# Altium footprint library Molex43045-0402.PcbLib: 1 footprints
Each footprint in its own frame and in the unit in brackets; x right, y up, seen from the top. Pads: shape width x height; smd on the part's side, far side on the other; paste and mask are expansions set on the pad; w line width, h text height; cw(c..) or ccw(c..) is an arc to the next point about the centre after c.
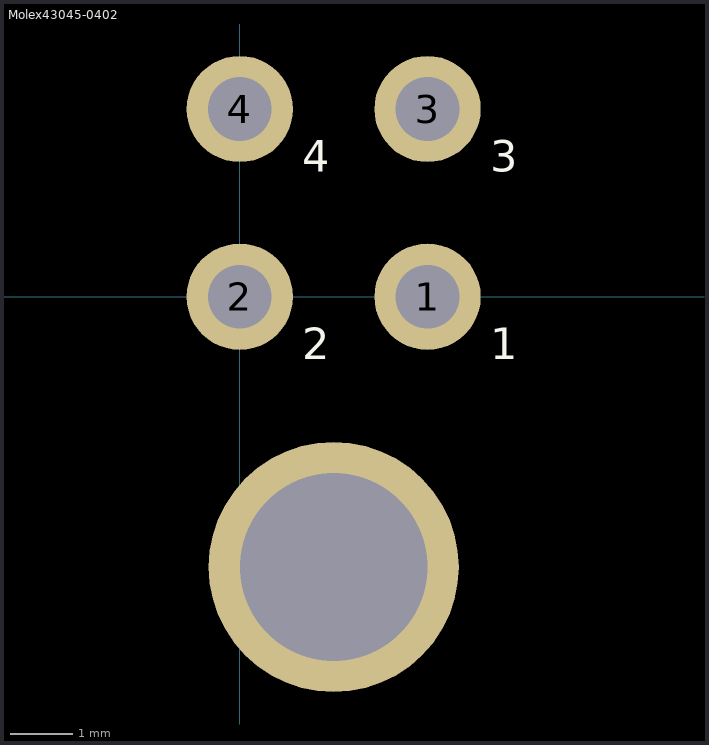
[diagram p0: the footprint, top view; thin cyan lines are the x and y axes]

## Molex43045-0402 [mm] "43045-0402"
pads (5):
  round 1.7 hole 1.02: 1(3,0) 2(0,0) 3(3,3) 4(0,3)
  round 4 hole 3 unplated: ""(1.5,-4.32)
Top Overlay:
  text "3" at 4,2 h0.5
  text "4" at 1,2 h0.5
  text "2" at 1,-1 h0.5
  text "1" at 4,-1 h0.5
3D body "430450402.stp": height 8.83, standoff -3.12, extent -3.575,-8.95 6.575,3.29